# Altium footprint library ICM7555.PcbLib: 2 footprints
Each footprint in its own frame and in the unit in brackets; x right, y up, seen from the top. Pads: shape width x height; smd on the part's side, far side on the other; paste and mask are expansions set on the pad; w line width, h text height; cw(c..) or ccw(c..) is an arc to the next point about the centre after c.
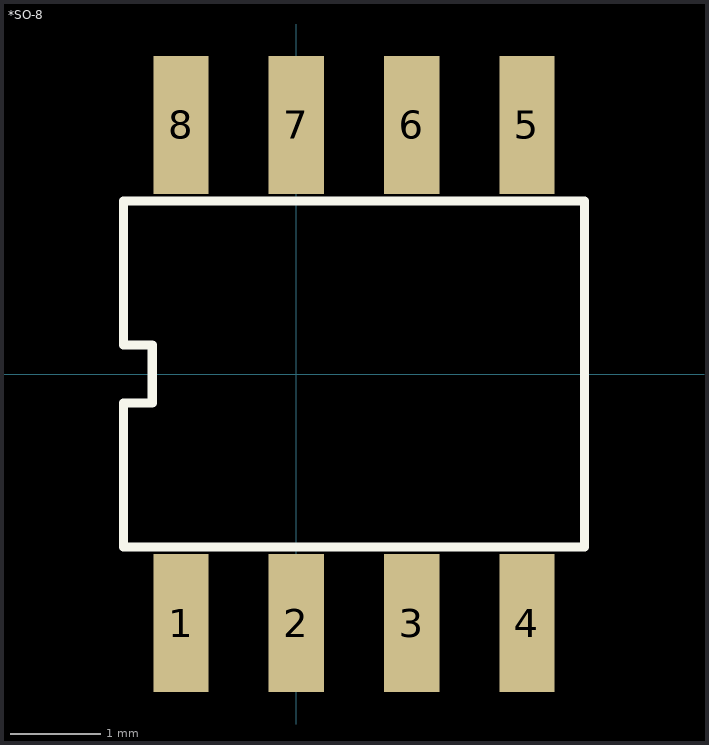
[diagram p0: the footprints below, top view; thin cyan lines are the x and y axes]

## *SO-8 [mil]
pads (8):
  rect 24x60 smd: 1(-50,-108) 2(0,-108) 3(50,-108) 4(100,-108) 5(100,108) 6(50,108) 7(0,108) 8(-50,108)
Top Overlay:
  lines w3.94: -75,-75 -75,-12.5 -62.5,-12.5 -62.5,12.5 -75,12.5 -75,75 125,75 125,-75 -75,-75

## PCBComponent_1 [mil]